# Altium schematic symbol library 2020-10-29_19-10-11.SchLib: 2 symbols
Pins are listed as number, name and electrical type; pins without a type are passive.

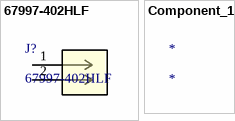
[diagram p0: symbols 67997-402HLF to Component_1]

## 67997-402HLF
designator J?
No Description Available; Built_By: EMA_UL_Team; Vendor: Amphenol FCI; SourceLibrary: Amphenol_2013-08-06_Bergstik_2Row_67997; Manufacturer_Part_Number: 67997-402HLF; Copyright: Copyright (C) 2018 Accelerated Designs. All rights reserved; RefDes: RefDes; Type: DEV
footprint 2Pins_AMP
pins: 1, 2

## Component_1
designator *